# Altium footprint library Archim.PcbLib: 75 footprints (part 2 of 5)
Each footprint in its own frame and in the unit in brackets; x right, y up, seen from the top. Pads: shape width x height; smd on the part's side, far side on the other; paste and mask are expansions set on the pad; w line width, h text height; cw(c..) or ccw(c..) is an arc to the next point about the centre after c.
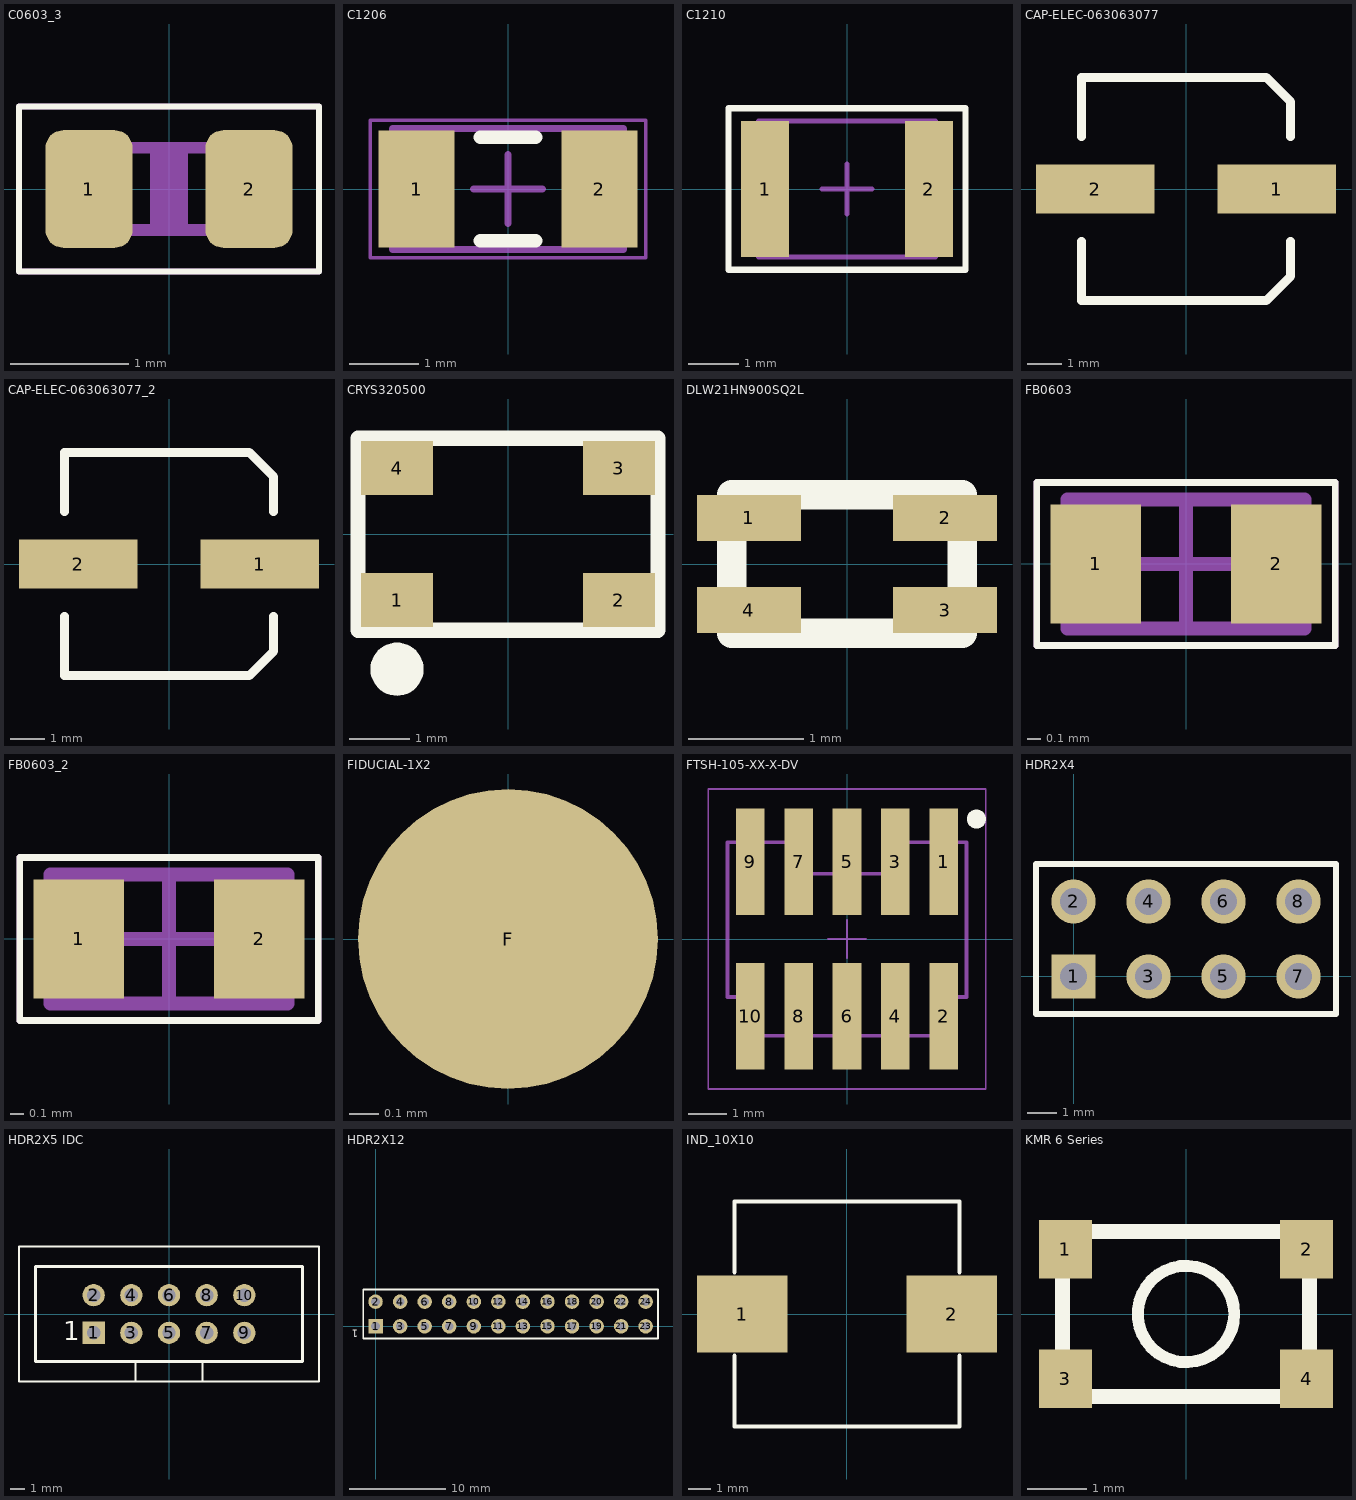
[diagram p1: the footprints below, top view; thin cyan lines are the x and y axes]

## C0603_3 [mm]
pads (2):
  rrect40% 0.74x1 smd: 1(-0.68,0) 2(0.68,0)
Top Overlay:
  lines w0.051: -1.275,-0.7 -1.275,0.7 1.275,0.7 1.275,-0.7 -1.275,-0.7
Mechanical 6:
  rectangle: -0.16,-0.299 0.16,0.301
Mechanical 8:
  rectangle: -0.8,-0.4 -0.45,0.4
  rectangle: 0.45,-0.4 0.8,0.4
  lines w0.1: -0.45,0.35 0.45,0.35
  lines w0.102: -0.45,-0.35 0.45,-0.35
Mechanical 15:
  lines w0.051: -1.275,-0.7 1.275,-0.7 1.275,0.7 -1.275,0.7 -1.275,-0.7
3D body: height 0.8, standoff 0, extent -0.8,-0.4 0.8,0.4

## C1206 [mm]
height 1.6
pads (2):
  rect 1.1x1.7 smd: 1(-1.325,0) 2(1.325,0)
Top Overlay:
  lines w0.2: -0.4,-0.75 0.4,-0.75 ; -0.4,0.75 0.4,0.75
Mechanical 13:
  lines w0.1: -1.675,-0.875 1.675,-0.875 1.675,0.875 -1.675,0.875 -1.675,-0.875
Mechanical 15:
  lines w0.05: -2,-1 2,-1 2,1 -2,1 -2,-1
  lines w0.1: -0.5,0 0.5,0 ; 0,-0.5 0,0.5
3D body: height 1.6, standoff 0, extent 1.125,-0.875 1.675,0.875
3D body: height 1.6, standoff 0, extent -1.675,-0.875 -1.125,0.875
3D body: height 1.6, standoff 0, extent -1.125,-0.875 1.125,0.875

## C1210 [mm]
height 2.7
pads (2):
  rect 0.95x2.7 smd: 1(-1.625,0) 2(1.625,0)
Top Overlay:
  lines w0.127: -2.35,-1.6 2.35,-1.6 2.35,1.6 -2.35,1.6 -2.35,-1.6
Mechanical 13:
  lines w0.1: -1.75,-1.35 -1.75,1.35 1.75,1.35 1.75,-1.35 -1.75,-1.35
Mechanical 15:
  lines w0.05: -2.35,-1.6 -2.35,1.6 2.35,1.6 2.35,-1.6 -2.35,-1.6
  lines w0.1: -0.5,0 0.5,0 ; 0,-0.5 0,0.5
3D body "C1210.step": height 2.7, standoff 0, extent -1.75,-1.35 1.75,1.35

## CAP-ELEC-063063077 [mm] "6.3x6.3x7.7mm"
height 7.7
pads (2):
  rect 3.4x1.4 smd: 1(2.6,0) 2(-2.6,0)
Top Overlay:
  lines w0.254: -3,-1.5 -3,-3.2 2.3,-3.2 3,-2.5 3,-1.5 ; -3,1.5 -3,3.2 2.3,3.2 3,2.5 3,1.5
3D body "User Library-ALU-D.STEP": height 5.4, standoff 0, extent -3.5,-3.3 3.5,3.3

## CAP-ELEC-063063077_2 [mm]
pads (2):
  rect 3.4x1.4 smd: 1(2.6,0) 2(-2.6,0)
Top Overlay:
  lines w0.254: -3,-1.5 -3,-3.2 2.3,-3.2 3,-2.5 3,-1.5 ; -3,1.5 -3,3.2 2.3,3.2 3,2.5 3,1.5
3D body "User Library-ALU-D.STEP": height 5.4, standoff 0, extent -3.5,-3.3 3.5,3.3

## CRYS320500 [mm]
pads (5):
  rect 1.2x0.9 smd: 1(-1.85,-1.1) 2(1.85,-1.1) 3(1.85,1.1) 4(-1.85,1.1)
  round 0.889 on Top Overlay: ""(-1.85,-2.25)
Top Overlay:
  lines w0.254: -2.5,-1.6 2.5,-1.6 2.5,1.6 -2.5,1.6 -2.5,-1.6
3D body: height 1.05, standoff 0, extent -2.552,-1.652 2.552,1.652

## DLW21HN900SQ2L [mm]
height 0.6
pads (4):
  rect 0.9x0.4 smd: 1(-0.85,0.4) 2(0.85,0.4) 3(0.85,-0.4) 4(-0.85,-0.4)
Top Overlay:
  lines w0.254: -1,-0.6 1,-0.6 1,0.6 -1,0.6 -1,-0.6
3D body: height 1, standoff 0, extent -0.999,-0.599 0.999,0.599

## FB0603 [mm] "Ferrite Bead, Samsung CIS10P High Current Series"
height 0.95
pads (2):
  rect 0.67x0.88 smd: 1(-0.665,0) 2(0.665,0)
Top Overlay:
  lines w0.05: -1.1,-0.6 -1.1,0.6 1.1,0.6 1.1,-0.6 -1.1,-0.6
Mechanical 13:
  lines w0.1: -0.875,-0.475 0.875,-0.475 0.875,0.475 -0.875,0.475 -0.875,-0.475
Mechanical 15:
  lines w0.05: -1.1,-0.6 1.1,-0.6 1.1,0.6 -1.1,0.6 -1.1,-0.6
  lines w0.1: -0.475,0 0.475,0 ; 0,-0.475 0,0.475
3D body "FB0603.step": height 0.95, standoff 0, extent -0.875,-0.475 0.875,0.475

## FB0603_2 [mm]
pads (2):
  rect 0.67x0.88 smd: 1(-0.665,0) 2(0.665,0)
Top Overlay:
  lines w0.05: -1.1,-0.6 1.1,-0.6 1.1,0.6 -1.1,0.6 -1.1,-0.6
Mechanical 13:
  lines w0.1: -0.875,-0.475 -0.875,0.475 0.875,0.475 0.875,-0.475 -0.875,-0.475
Mechanical 15:
  lines w0.05: -1.1,-0.6 -1.1,0.6 1.1,0.6 1.1,-0.6 -1.1,-0.6
  lines w0.1: -0.475,0 0.475,0 ; 0,-0.475 0,0.475
3D body "FB0603.step": height 0.95, standoff 0, extent -0.875,-0.475 0.875,0.475

## FIDUCIAL-1X2 [mil]
pads (1):
  rrect100% 40x40 smd paste-3897.64 mask+20: F(0,0)
3D body: height 0.79, standoff 0, extent -19.84,-19.96 20.01,19.97

## FTSH-105-XX-X-DV [mm] "1.27mm pitch, 10 pin, terminal strip; vertical, SMT"
height 5.97
pads (10):
  rect 0.75x2.8 smd: 1(2.54,2.03) 2(2.54,-2.03) 3(1.27,2.03) 4(1.27,-2.03) 5(0,2.03) 6(0,-2.03) 7(-1.27,2.03) 8(-1.27,-2.03) 9(-2.54,2.03) 10(-2.54,-2.03)
Top Overlay:
  circle w0.25: c3.4,3.15 r0.125
Mechanical 12:
  lines w0.001: -3.137,-1.524 -2.54,-1.524 -2.54,-2.54 2.54,-2.54 2.54,-1.524 3.137,-1.524 3.137,2.54 1.079,2.54 1.079,1.714 -1.079,1.714 -1.079,2.54 -3.137,2.54 -3.137,-1.524
Mechanical 13:
  lines w0.1: -3.137,-1.524 -2.54,-1.524 -2.54,-2.54 2.54,-2.54 2.54,-1.524 3.137,-1.524 3.137,2.54 1.079,2.54 1.079,1.714 -1.079,1.714 -1.079,2.54 -3.137,2.54 -3.137,-1.524
Mechanical 15:
  lines w0.05: -0.5,0 0.5,0 ; 0,-0.5 0,0.5 ; -3.645,-3.937 -3.645,3.937 3.645,3.937 3.645,-3.937 -3.645,-3.937

## HDR2X4 [mm] "Connector; Header; 4x2 Position"
height 0.6
pads (8):
  rect 1.5x1.5 hole 0.9: 1(0,0)
  round 1.5 hole 0.9: 2(0,2.54) 3(2.54,0) 4(2.54,2.54) 5(5.08,0) 6(5.08,2.54) 7(7.62,0) 8(7.62,2.54)
Top Overlay:
  lines w0.2: -1.27,-1.27 -1.27,3.81 8.89,3.81 8.89,-1.27 -1.27,-1.27
3D body: height 6.35, standoff 0, extent -1.37,-1.37 8.99,3.91

## HDR2X5 IDC [mm] "Connector; Header; 5x2 Position"
pads (10):
  rect 1.5x1.5 hole 0.9: 1(-5.08,-1.27)
  round 1.5 hole 0.9: 2(-5.08,1.27) 3(-2.54,-1.27) 4(-2.54,1.27) 5(0,-1.27) 6(0,1.27) 7(2.54,-1.27) 8(2.54,1.27) 9(5.08,-1.27) 10(5.08,1.27)
Top Overlay:
  lines w0.152: -2.25,-4.55 -2.25,-3.2 ; 2.25,-4.55 2.25,-3.2 ; -10.11,-4.55 -10.11,4.55 10.11,4.55 10.11,-4.55 -10.11,-4.55
  lines w0.2: -9.01,-3.2 -9.01,3.2 9.01,3.2 9.01,-3.2 -9.01,-3.2
  text "1" at -7.112,-1.778 h1.27
Mechanical 1:
  lines w0.152: -5.33,-1.52 -5.33,-1.02 -4.83,-1.02 -4.83,-1.52 -5.33,-1.52 ; -5.33,1.02 -5.33,1.52 -4.83,1.52 -4.83,1.02 -5.33,1.02 ; -2.79,-1.52 -2.79,-1.02 -2.29,-1.02 -2.29,-1.52 -2.79,-1.52 ; -2.79,1.02 -2.79,1.52 -2.29,1.52 -2.29,1.02 -2.79,1.02 ; -0.25,-1.52 -0.25,-1.02 0.25,-1.02 0.25,-1.52 -0.25,-1.52 ; -0.25,1.02 -0.25,1.52 0.25,1.52 0.25,1.02 -0.25,1.02 ; 2.29,-1.52 2.29,-1.02 2.79,-1.02 2.79,-1.52 2.29,-1.52 ; 2.29,1.02 2.29,1.52 2.79,1.52 2.79,1.02 2.29,1.02 ; 4.83,-1.52 4.83,-1.02 5.33,-1.02 5.33,-1.52 4.83,-1.52 ; 4.83,1.02 4.83,1.52 5.33,1.52 5.33,1.02 4.83,1.02
3D body: height 2, standoff 0, extent -10.186,-4.626 10.186,4.626
3D body: height 9.1, standoff 0, extent -10.109,-4.549 10.109,4.549
3D body: height 9.1, standoff -3.1, extent -2.789,-1.519 -2.291,-1.021
3D body: height 9.1, standoff -3.1, extent -5.329,-1.519 -4.831,-1.021
3D body: height 9.1, standoff -3.1, extent -0.249,-1.519 0.249,-1.021
3D body: height 9.1, standoff -3.1, extent -5.329,1.021 -4.831,1.519
3D body: height 9.1, standoff -3.1, extent -2.789,1.021 -2.291,1.519
3D body: height 9.1, standoff -3.1, extent -0.249,1.021 0.249,1.519
3D body: height 9.1, standoff -3.1, extent 2.291,-1.519 2.789,-1.021
3D body: height 9.1, standoff -3.1, extent 4.831,-1.519 5.329,-1.021
3D body: height 9.1, standoff -3.1, extent 2.291,1.021 2.789,1.519
3D body: height 9.1, standoff -3.1, extent 4.831,1.021 5.329,1.519

## HDR2X12 [mm] "Connector; Header; 12x2 Position"
pads (24):
  rect 1.5x1.5 hole 0.9: 1(0,0)
  round 1.5 hole 0.9: 2(0,2.54) 3(2.54,0) 4(2.54,2.54) 5(5.08,0) 6(5.08,2.54) 7(7.62,0) 8(7.62,2.54) 9(10.16,0) 10(10.16,2.54) 11(12.7,0) 12(12.7,2.54) 13(15.24,0) 14(15.24,2.54) 15(17.78,0) 16(17.78,2.54) 17(20.32,0) 18(20.32,2.54) 19(22.86,0) 20(22.86,2.54) 21(25.4,0) 22(25.4,2.54) 23(27.94,0) 24(27.94,2.54)
Top Overlay:
  lines w0.2: -1.27,-1.27 29.21,-1.27 29.21,3.81 -1.27,3.81 -1.27,-1.27
  text "1" at -1.815,-0.373 h0.76
3D body: height 10, standoff 0, extent -1.37,-1.37 29.31,3.91

## IND_10X10 [mm]
height 3.8
pads (2):
  rect 4.1x3.5 smd: 1(-4.75,0) 2(4.75,0)
Top Overlay:
  lines w0.203: -5.1,-1.9 -5.1,-5.1 5.1,-5.1 5.1,-1.9 ; -5.1,1.9 -5.1,5.1 5.1,5.1 5.1,1.9
3D body: height 4, standoff 0, extent -5,-5 5,5

## KMR 6 Series [mm] "Tactile Switch SPST-NO Top Actuated Surface Mount"
pads (4):
  rect 0.9x1 smd: 1(-2.05,1.1) 2(2.05,1.1) 3(-2.05,-1.1) 4(2.05,-1.1)
Top Overlay:
  circle w0.203: c0,0 r0.82
  lines w0.254: -2.1,-1.4 -2.1,1.4 2.1,1.4 2.1,-1.4 -2.1,-1.4
3D body: height 1.4, standoff 0, extent -2.099,-1.399 2.099,1.399
3D body: height 1.9, standoff 0, extent -0.819,-0.819 0.819,0.819